# Altium footprint library SamacSys.PcbLib: 24 footprints (part 1 of 2)
Each footprint in its own frame and in the unit in brackets; x right, y up, seen from the top. Pads: shape width x height; smd on the part's side, far side on the other; paste and mask are expansions set on the pad; w line width, h text height; cw(c..) or ccw(c..) is an arc to the next point about the centre after c.
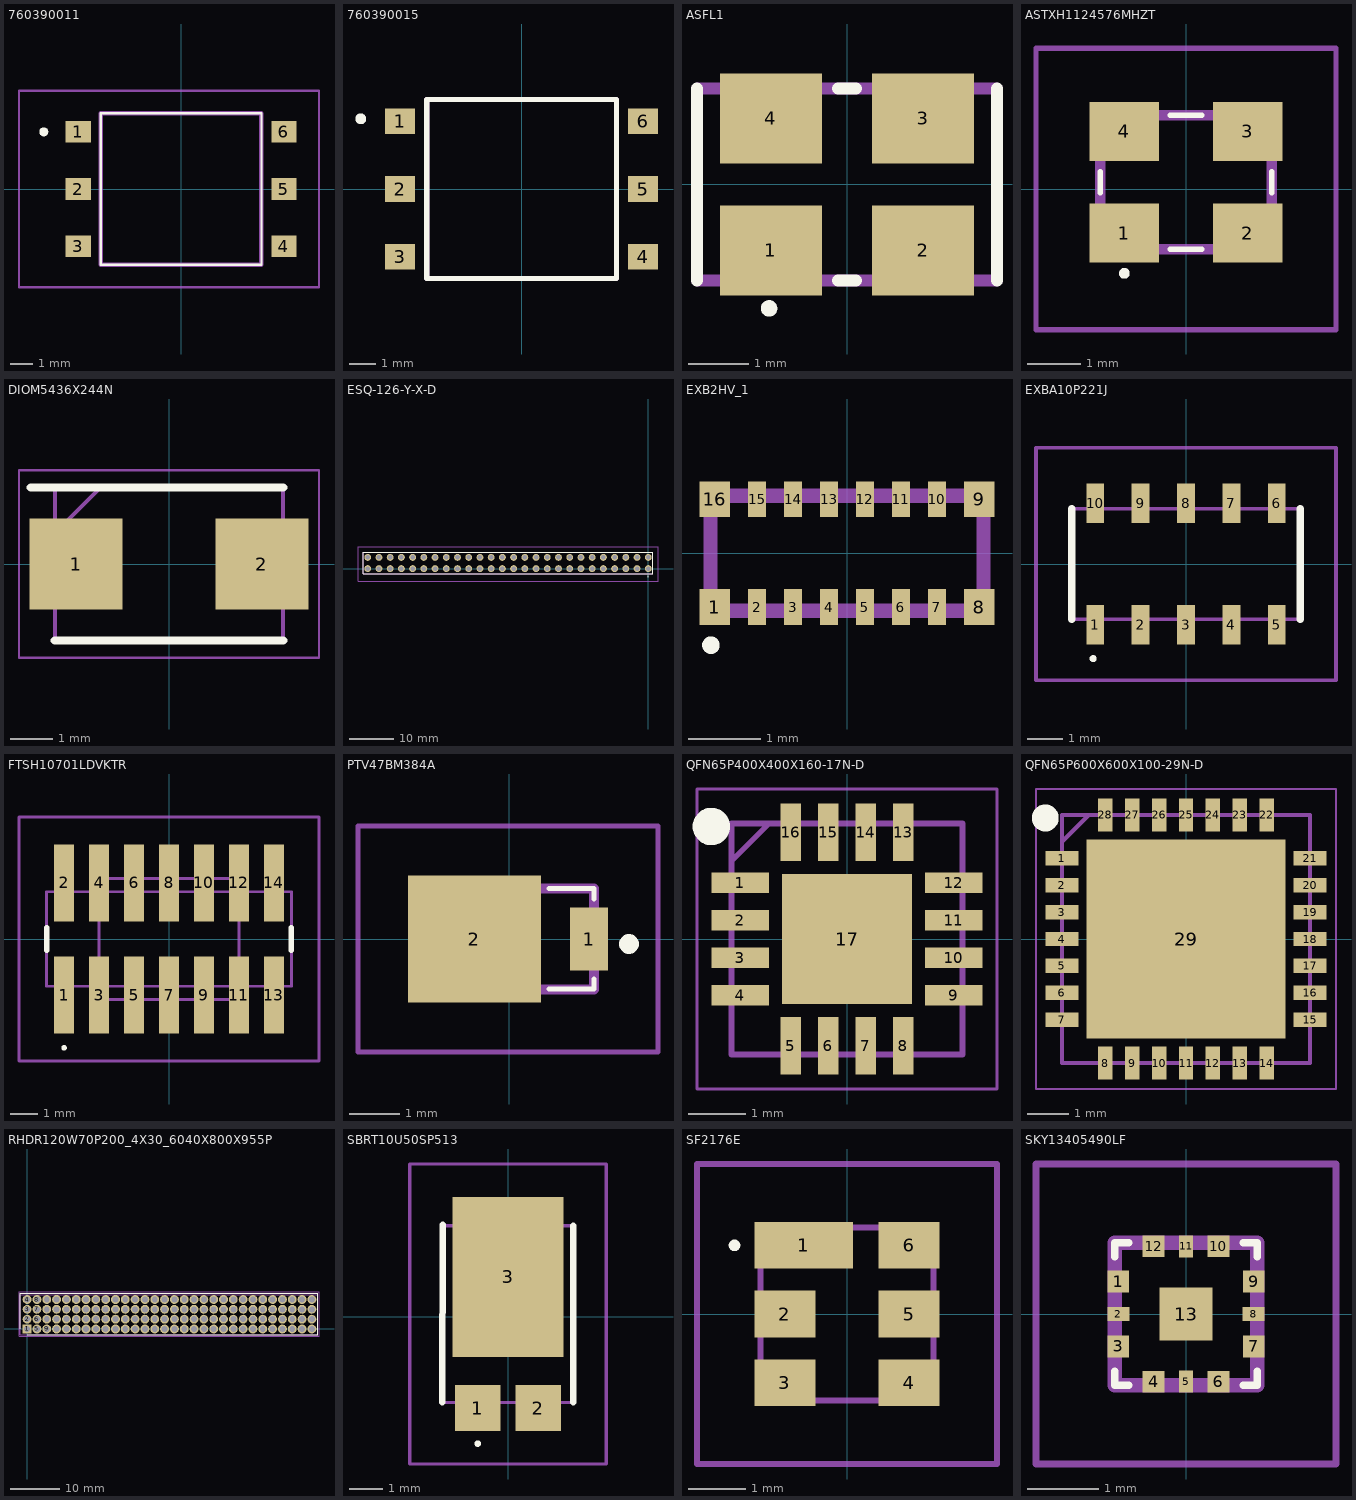
[diagram p0: the footprints below, top view; thin cyan lines are the x and y axes]

## 760390011 [mm]
pads (6):
  rect 1.12x0.96 smd: 1(-4.57,2.54) 2(-4.57,0) 3(-4.57,-2.54) 4(4.57,-2.54) 5(4.57,0) 6(4.57,2.54)
Top Overlay:
  lines w0.1: -3.57,-3.365 3.57,-3.365 3.57,3.365 -3.57,3.365 -3.57,-3.365
  lines w0.2: -6.2,2.54 cw(c-6.1,2.54) -6,2.54 cw(c-6.1,2.54) -6.2,2.54
Mechanical 13:
  lines w0.2: -3.57,-3.365 3.57,-3.365 3.57,3.365 -3.57,3.365 -3.57,-3.365
Mechanical 15:
  lines w0.1: -7.2,-4.365 6.13,-4.365 6.13,4.365 -7.2,4.365 -7.2,-4.365

## 760390015 [mm]
pads (6):
  rect 1.12x0.96 smd: 1(-4.57,2.54) 2(-4.57,0) 3(-4.57,-2.54) 4(4.57,-2.54) 5(4.57,0) 6(4.57,2.54)
Top Overlay:
  circle w0.2: c-6.049,2.64 r0.104
  lines w0.2: -3.57,-3.365 3.57,-3.365 3.57,3.365 -3.57,3.365 -3.57,-3.365
Mechanical 13:
  lines w0.2: -3.57,-3.365 -3.57,3.365 3.57,3.365 3.57,-3.365 -3.57,-3.365
3D body "760390014.stp": height 4.06, standoff 0, extent -5.005,-3.235 4.955,3.245

## ASFL1 [mm]
pads (4):
  rect 1.7x1.5 smd: 1(-1.27,-1.1) 2(1.27,-1.1) 3(1.27,1.1) 4(-1.27,1.1)
Top Overlay:
  circle w0.2: c-1.299,-2.066 r0.037
  lines w0.2: -2.5,-1.6 -2.5,1.6 ; -0.154,-1.6 0.154,-1.6 ; -0.154,1.6 0.154,1.6 ; 2.5,-1.6 2.5,1.6
Mechanical 13:
  lines w0.2: -2.5,-1.6 2.5,-1.6 2.5,1.6 -2.5,1.6 -2.5,-1.6
3D body "ASFL1-75.000MHZ-L-T.stp": height 1.29, standoff -0.01, extent -2.5,-1.6 2.5,1.6

## ASTXH1124576MHZT [mm]
pads (4):
  rect 1.3x1.1 smd: 1(-1.15,-0.825) 2(1.15,-0.825) 3(1.15,1.075) 4(-1.15,1.075)
Top Overlay:
  lines w0.1: -1.6,-0.075 -1.6,0.325 ; -0.3,-1.125 0.3,-1.125 ; -0.3,1.375 0.3,1.375 ; 1.6,-0.075 1.6,0.325 ; -1.2,-1.575 ccw(c-1.15,-1.575) -1.1,-1.575 ccw(c-1.15,-1.575) -1.2,-1.575
Mechanical 13:
  lines w0.2: -1.6,-1.125 -1.6,1.375 1.6,1.375 1.6,-1.125 -1.6,-1.125
Mechanical 15:
  lines w0.1: -2.8,-2.625 -2.8,2.625 2.8,2.625 2.8,-2.625 -2.8,-2.625
3D body "ASTX-H11-32.000MHZ-I25-T.stp": height 1.2, standoff 0, extent -1.69,-1.265 1.69,1.515

## DIOM5436X244N [mm]
pads (2):
  rect 2.2x2.15 smd: 1(-2.2,0) 2(2.2,0)
Top Overlay:
  lines w0.2: -3.275,1.81 2.7,1.81 ; -2.7,-1.81 2.7,-1.81
Mechanical 13:
  lines w0.1: -2.7,0.735 -1.625,1.81 ; -2.7,-1.81 -2.7,1.81 2.7,1.81 2.7,-1.81 -2.7,-1.81
Mechanical 15:
  lines w0.05: -3.55,-2.22 -3.55,2.22 3.55,2.22 3.55,-2.22 -3.55,-2.22
3D body "SACB50.stp": height 2.44, standoff 0, extent -2.7,-1.81 2.7,1.81

## ESQ-126-Y-X-D [mm]
pads (52):
  round 1.55 hole 1.02: 1(0,0) 2(0,2.54) 3(-2.54,0) 4(-2.54,2.54) 5(-5.08,0) 6(-5.08,2.54) 7(-7.62,0) 8(-7.62,2.54) 9(-10.16,0) 10(-10.16,2.54) 11(-12.7,0) 12(-12.7,2.54) 13(-15.24,0) 14(-15.24,2.54) 15(-17.78,0) 16(-17.78,2.54) 17(-20.32,0) 18(-20.32,2.54) 19(-22.86,0) 20(-22.86,2.54) 21(-25.4,0) 22(-25.4,2.54) 23(-27.94,0) 24(-27.94,2.54) 25(-30.48,0) 26(-30.48,2.54) 27(-33.02,0) 28(-33.02,2.54) 29(-35.56,0) 30(-35.56,2.54) 31(-38.1,0) 32(-38.1,2.54) 33(-40.64,0) 34(-40.64,2.54) 35(-43.18,0) 36(-43.18,2.54) 37(-45.72,0) 38(-45.72,2.54) 39(-48.26,0) 40(-48.26,2.54) 41(-50.8,0) 42(-50.8,2.54) 43(-53.34,0) 44(-53.34,2.54) 45(-55.88,0) 46(-55.88,2.54) 47(-58.42,0) 48(-58.42,2.54) 49(-60.96,0) 50(-60.96,2.54) 51(-63.5,0) 52(-63.5,2.54)
Top Overlay:
  circle w0.2: c-0.05,-1.75 r0.05
  lines w0.1: -64.5,-1.205 -64.5,3.745 1,3.745 1,-1.205 -64.5,-1.205
Mechanical 13:
  lines w0.2: -64.5,-1.205 -64.5,3.745 1,3.745 1,-1.205 -64.5,-1.205
Mechanical 15:
  lines w0.05: -65.7,-2.85 -65.7,4.945 2.2,4.945 2.2,-2.85 -65.7,-2.85
3D body "ESQ-126-59-G-D.stp": height 16.11, standoff -7.13, extent -64.974,-1.21 1.574,3.87

## EXB2HV_1 [mm]
pads (16):
  rect 0.425x0.5 smd: 1(-1.837,-0.75) 8(1.837,-0.75) 9(1.837,0.75) 16(-1.837,0.75)
  rect 0.25x0.5 smd: 2(-1.25,-0.75) 3(-0.75,-0.75) 4(-0.25,-0.75) 5(0.25,-0.75) 6(0.75,-0.75) 7(1.25,-0.75) 10(1.25,0.75) 11(0.75,0.75) 12(0.25,0.75) 13(-0.25,0.75) 14(-0.75,0.75) 15(-1.25,0.75)
Top Overlay:
  circle w0.2: c-1.893,-1.28 r0.022
Mechanical 13:
  lines w0.2: -1.9,-0.8 -1.9,0.8 1.9,0.8 1.9,-0.8 -1.9,-0.8
3D body "EXB-2HV181JV.stp": height 0.55, standoff 0, extent -1.95,-0.9 1.95,0.9

## EXBA10P221J [mm]
pads (10):
  rect 0.5x1.1 smd: 1(-2.54,-1.7) 2(-1.27,-1.7) 3(0,-1.7) 4(1.27,-1.7) 5(2.54,-1.7) 6(2.54,1.7) 7(1.27,1.7) 8(0,1.7) 9(-1.27,1.7) 10(-2.54,1.7)
Top Overlay:
  lines w0.1: -2.6,-2.7 ccw(c-2.6,-2.65) -2.6,-2.6 ccw(c-2.6,-2.65) -2.6,-2.7
  lines w0.2: -3.2,-1.55 -3.2,1.55 ; 3.2,-1.55 3.2,1.55
Mechanical 13:
  lines w0.1: -3.2,-1.55 -3.2,1.55 3.2,1.55 3.2,-1.55 -3.2,-1.55
Mechanical 15:
  lines w0.1: -4.2,-3.25 -4.2,3.25 4.2,3.25 4.2,-3.25 -4.2,-3.25
3D body "EXB-A10P221J.stp": height 0.75, standoff 0, extent -3.2,-2.2 3.2,2.2

## FTSH10701LDVKTR [mm]
pads (14):
  rect 0.74x2.79 smd: 1(-3.81,-2.035) 2(-3.81,2.035) 3(-2.54,-2.035) 4(-2.54,2.035) 5(-1.27,-2.035) 6(-1.27,2.035) 7(0,-2.035) 8(0,2.035) 9(1.27,-2.035) 10(1.27,2.035) 11(2.54,-2.035) 12(2.54,2.035) 13(3.81,-2.035) 14(3.81,2.035)
Top Overlay:
  lines w0.1: -3.81,-4 cw(c-3.81,-3.95) -3.81,-3.9 cw(c-3.81,-3.95) -3.81,-4
  lines w0.2: -4.445,-0.4 -4.445,0.4 ; 4.445,-0.4 4.445,0.4
Mechanical 13:
  lines w0.1: -4.445,-1.715 -4.445,1.715 4.445,1.715 4.445,-1.715 -4.445,-1.715 ; -2.54,-2.2 -2.54,2.2 2.54,2.2 2.54,-2.2 -2.54,-2.2
Mechanical 15:
  lines w0.1: -5.445,-4.43 -5.445,4.43 5.445,4.43 5.445,-4.43 -5.445,-4.43
3D body "FTSH-107-01-L-DV-K-TR.stp": height 6.12, standoff 0, extent -4.445,-2.921 4.445,2.921

## PTV47BM384A [mm]
pads (2):
  rect 0.762x1.27 smd: 1(1.602,0)
  rect 2.67x2.54 smd: 2(-0.699,0)
Top Overlay:
  lines w0.1: 0.8,-1 1.7,-1 1.7,-0.8 ; 0.8,1.015 1.7,1.015 1.7,0.8
  lines w0.2: 2.4,-0.2 ccw(c2.4,-0.1) 2.4,0 ccw(c2.4,-0.1) 2.4,-0.2
Mechanical 13:
  lines w0.2: -1.7,-1.015 -1.7,1.015 1.7,1.015 1.7,-1.015 -1.7,-1.015
Mechanical 15:
  lines w0.1: -3.034,-2.27 -3.034,2.27 2.983,2.27 2.983,-2.27 -3.034,-2.27
3D body "PTV4.7B-M3_84A.stp": height 1.02, standoff 0, extent -2.02,-1.025 1.98,1.025

## QFN65P400X400X160-17N-D [mm]
pads (17):
  rect 1x0.35 smd: 1(-1.85,0.975) 2(-1.85,0.325) 3(-1.85,-0.325) 4(-1.85,-0.975) 9(1.85,-0.975) 10(1.85,-0.325) 11(1.85,0.325) 12(1.85,0.975)
  rect 0.35x1 smd: 5(-0.975,-1.85) 6(-0.325,-1.85) 7(0.325,-1.85) 8(0.975,-1.85) 13(0.975,1.85) 14(0.325,1.85) 15(-0.325,1.85) 16(-0.975,1.85)
  rect 2.25x2.25 smd: 17(0,0)
Top Overlay:
  circle w0.325: c-2.351,1.95 r0.162
Mechanical 13:
  lines w0.1: -2,1.35 -1.35,2 ; -2,-2 -2,2 2,2 2,-2 -2,-2
Mechanical 15:
  lines w0.05: -2.6,-2.6 -2.6,2.6 2.6,2.6 2.6,-2.6 -2.6,-2.6
3D body "SKY12212-478LF.stp": height 1.6, standoff 0, extent -2.05,-2.05 2.05,2.05

## QFN65P600X600X100-29N-D [mm]
pads (29):
  rect 0.8x0.35 smd: 1(-3,1.95) 2(-3,1.3) 3(-3,0.65) 4(-3,0) 5(-3,-0.65) 6(-3,-1.3) 7(-3,-1.95) 15(3,-1.95) 16(3,-1.3) 17(3,-0.65) 18(3,0) 19(3,0.65) 20(3,1.3) 21(3,1.95)
  rect 0.35x0.8 smd: 8(-1.95,-3) 9(-1.3,-3) 10(-0.65,-3) 11(0,-3) 12(0.65,-3) 13(1.3,-3) 14(1.95,-3) 22(1.95,3) 23(1.3,3) 24(0.65,3) 25(0,3) 26(-0.65,3) 27(-1.3,3) 28(-1.95,3)
  rect 4.8x4.8 smd: 29(0,0)
Top Overlay:
  circle w0.325: c-3.401,2.925 r0.162
Mechanical 13:
  lines w0.1: -3,2.35 -2.35,3 ; -3,-3 -3,3 3,3 3,-3 -3,-3
Mechanical 15:
  lines w0.05: -3.625,-3.625 -3.625,3.625 3.625,3.625 3.625,-3.625 -3.625,-3.625
3D body "SX1278IMLTRT.stp": height 1, standoff 0, extent -3.05,-3.05 3.05,3.05

## RHDR120W70P200_4X30_6040X800X955P [mm]
pads (120):
  rect 1.8x1.8 hole 1.2: 1(0,0)
  round 1.8 hole 1.2: 2(0,2) 3(0,4) 4(0,6) 5(2,0) 6(2,2) 7(2,4) 8(2,6) 9(4,0) 10(4,2) 11(4,4) 12(4,6) 13(6,0) 14(6,2) 15(6,4) 16(6,6) 17(8,0) 18(8,2) 19(8,4) 20(8,6) 21(10,0) 22(10,2) 23(10,4) 24(10,6) 25(12,0) 26(12,2) 27(12,4) 28(12,6) 29(14,0) 30(14,2) 31(14,4) 32(14,6) 33(16,0) 34(16,2) 35(16,4) 36(16,6) 37(18,0) 38(18,2) 39(18,4) 40(18,6) 41(20,0) 42(20,2) 43(20,4) 44(20,6) 45(22,0) 46(22,2) 47(22,4) 48(22,6) 49(24,0) 50(24,2) 51(24,4) 52(24,6) 53(26,0) 54(26,2) 55(26,4) 56(26,6) 57(28,0) 58(28,2) 59(28,4) 60(28,6) 61(30,0) 62(30,2) 63(30,4) 64(30,6) 65(32,0) 66(32,2) 67(32,4) 68(32,6) 69(34,0) 70(34,2) 71(34,4) 72(34,6) 73(36,0) 74(36,2) 75(36,4) 76(36,6) 77(38,0) 78(38,2) 79(38,4) 80(38,6) 81(40,0) 82(40,2) 83(40,4) 84(40,6) 85(42,0) 86(42,2) 87(42,4) 88(42,6) 89(44,0) 90(44,2) 91(44,4) 92(44,6) 93(46,0) 94(46,2) 95(46,4) 96(46,6) 97(48,0) 98(48,2) 99(48,4) 100(48,6) 101(50,0) 102(50,2) 103(50,4) 104(50,6) 105(52,0) 106(52,2) 107(52,4) 108(52,6) 109(54,0) 110(54,2) 111(54,4) 112(54,6) 113(56,0) 114(56,2) 115(56,4) 116(56,6) 117(58,0) 118(58,2) 119(58,4) 120(58,6)
Top Overlay:
  lines w0.2: -1.4,0 -1.4,7.3 59.2,7.3 59.2,-1.2 0,-1.2
Mechanical 13:
  lines w0.1: -1.4,-1.2 59.2,-1.2 59.2,7 -1.4,7 -1.4,-1.2
Mechanical 15:
  lines w0.05: -1.65,-1.45 59.45,-1.45 59.45,7.55 -1.65,7.55 -1.65,-1.45
3D body "5P03-2021-DA.stp": height 9.55, standoff -12.6, extent -1.2,-1 59.2,7

## SBRT10U50SP513 [mm]
pads (3):
  rect 1.39x1.4 smd: 1(-0.92,-2.77) 2(0.92,-2.77)
  rect 3.36x4.86 smd: 3(0,1.212)
Top Overlay:
  lines w0.1: -0.92,-3.9 ccw(c-0.92,-3.85) -0.92,-3.8 ccw(c-0.92,-3.85) -0.92,-3.9
  lines w0.2: -2,-2.6 -1.983,2.8 ; 1.983,-2.6 1.983,2.77
Mechanical 13:
  lines w0.1: -1.983,-2.6 -1.983,2.77 1.983,2.77 1.983,-2.6 -1.983,-2.6
Mechanical 15:
  lines w0.1: -2.983,-4.47 -2.983,4.642 2.983,4.642 2.983,-4.47 -2.983,-4.47
3D body "SBRT10U50SP5-13.stp": height 1.25, standoff 0, extent -1.983,-3.331 1.983,3.306

## SF2176E [mm]
pads (6):
  rect 1.7x0.81 smd: 1(-0.75,1.19)
  rect 1.05x0.81 smd: 2(-1.075,0) 3(-1.075,-1.19) 4(1.075,-1.19) 5(1.075,0) 6(1.075,1.19)
Top Overlay:
  lines w0.1: -2,1.19 cw(c-1.95,1.19) -1.9,1.19 cw(c-1.95,1.19) -2,1.19
Mechanical 13:
  lines w0.1: -1.5,-1.5 -1.5,1.5 1.5,1.5 1.5,-1.5 -1.5,-1.5
Mechanical 15:
  lines w0.1: -2.6,-2.6 -2.6,2.6 2.6,2.6 2.6,-2.6 -2.6,-2.6
3D body "SF2176E.stp": height 1.48, standoff 0, extent -1.519,-1.514 1.519,1.514

## SKY13405490LF [mm]
pads (13):
  rect 0.3x0.31 smd: 1(-0.95,0.455) 3(-0.95,-0.455) 7(0.95,-0.455) 9(0.95,0.455)
  rect 0.31x0.2 smd: 2(-0.95,0) 8(0.95,0)
  rect 0.31x0.3 smd: 4(-0.455,-0.95) 6(0.455,-0.95) 10(0.455,0.95) 12(-0.455,0.95)
  rect 0.2x0.31 smd: 5(0,-0.95) 11(0,0.95)
  rect 0.75x0.75 smd: 13(0,0)
Top Overlay:
  lines w0.1: -1,-0.8 -1,-1 -0.8,-1 ; -1,0.8 -1,1 -0.8,1 ; 0.8,-1 1,-1 1,-0.8 ; 0.8,1 1,1 1,0.8
Mechanical 13:
  lines w0.2: -1,-1 -1,1 1,1 1,-1 -1,-1
Mechanical 15:
  lines w0.1: -2.105,-2.105 -2.105,2.105 2.105,2.105 2.105,-2.105 -2.105,-2.105
3D body "SKY13405-490LF.stp": height 1.1, standoff 0, extent -1,-1 1,1